# Altium schematic symbol library EPL Scblib.SchLib: 5 symbols
Pins are listed as number, name and electrical type; pins without a type are passive.

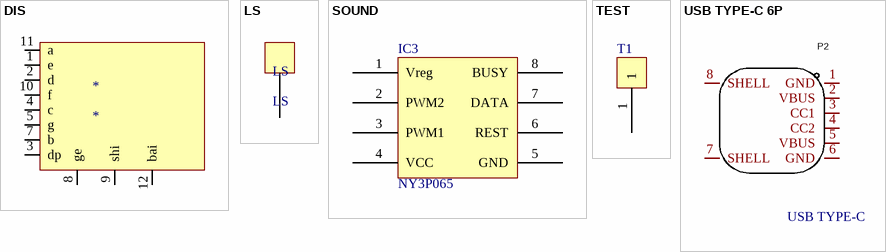
[diagram p0: symbols DIS to USB TYPE-C 6P]

## DIS
designator *
pins: 1 e, 2 d, 3 dp, 4 c, 5 g, 7 b, 8 ge, 9 shi, 10 f, 11 a, 12 bai

## LS
designator LS
solid

## SOUND
designator IC3, comment NY3P065
footprint SO8MY
pins: 1 Vreg, 2 PWM2, 3 PWM1, 4 VCC, 5 GND, 6 REST, 7 DATA, 8 BUSY

## TEST
designator T1  (value not drawn)
footprint SIP1
pins: 1

## USB TYPE-C 6P
designator P2, comment USB TYPE-C
Symbol: TYPE-C 6P CB1.6(073); Add into BOM: yes; Number of Ports: 1; Number of Contacts: 6P; Current Rating - Power (Max): 5A; Device: TYPE-C 6P CB1.6(073); Supplier Part: C2858274; Manufacturer Part: TYPE-C 6P CB1.6(073); Supplier Footprint: SMD; JLCPCB Part Class: Extended Part; Datasheet: https://atta.szlcsc.com/upload/public/pdf/source/20220408/7E0E465C11F85B3C51A520D1219A5616.pdf; Supplier: LCSC; Convert to PCB: yes; Connector Type: Type-C; Standard: -
footprint USB-C-SMD_TYPE-C-6PCB1.6-073
pins: 1 GND, 2 VBUS, 3 CC1, 4 CC2, 5 VBUS, 6 GND, 7 SHELL, 8 SHELL